# Altium footprint library mpu60x0.PcbLib: 1 footprints
Each footprint in its own frame and in the unit in brackets; x right, y up, seen from the top. Pads: shape width x height; smd on the part's side, far side on the other; paste and mask are expansions set on the pad; w line width, h text height; cw(c..) or ccw(c..) is an arc to the next point about the centre after c.
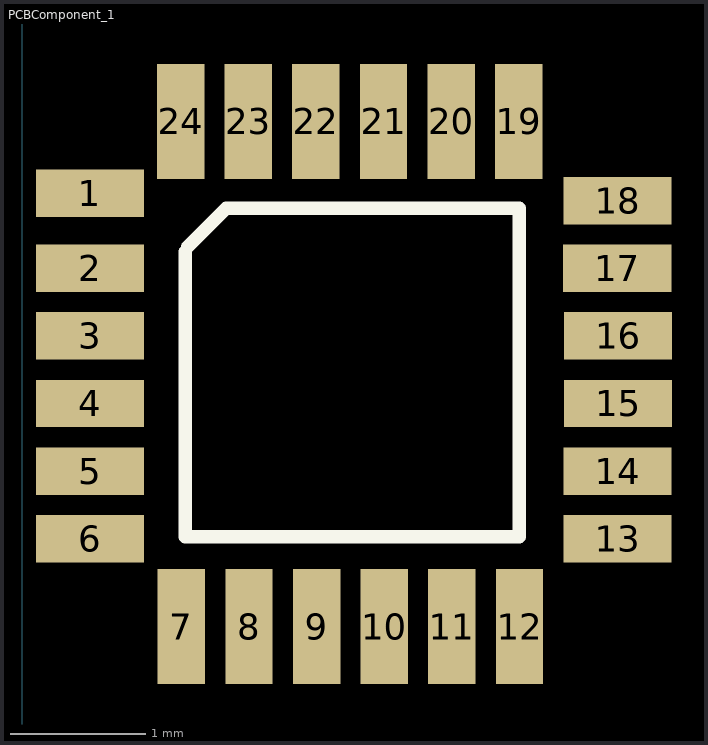
[diagram p0: the footprint, top view; thin cyan lines are the x and y axes]

## PCBComponent_1 [mm]
pads (24):
  rect 0.8x0.35 smd: 1(0.499,4.729) 2(0.5,4.175) 3(0.5,3.675) 4(0.5,3.175) 5(0.5,2.675) 6(0.5,2.175) 13(4.4,2.175) 14(4.4,2.675) 15(4.404,3.175) 16(4.404,3.675) 17(4.397,4.175) 18(4.4,4.675)
  rect 0.35x0.85 smd: 7(1.175,1.525) 8(1.675,1.525) 9(2.175,1.525) 10(2.675,1.525) 11(3.175,1.525) 12(3.675,1.525) 19(3.67,5.261) 20(3.17,5.261) 21(2.67,5.261) 22(2.17,5.261) 23(1.67,5.261) 24(1.17,5.261)
Top Overlay:
  lines w0.1: 1.202,4.296 1.202,2.188 3.674,2.188 3.674,4.617 1.506,4.617 1.223,4.334